# Altium footprint library SW_PTS525SM15SMTR2LFS.PcbLib: 1 footprints
Each footprint in its own frame and in the unit in brackets; x right, y up, seen from the top. Pads: shape width x height; smd on the part's side, far side on the other; paste and mask are expansions set on the pad; w line width, h text height; cw(c..) or ccw(c..) is an arc to the next point about the centre after c.
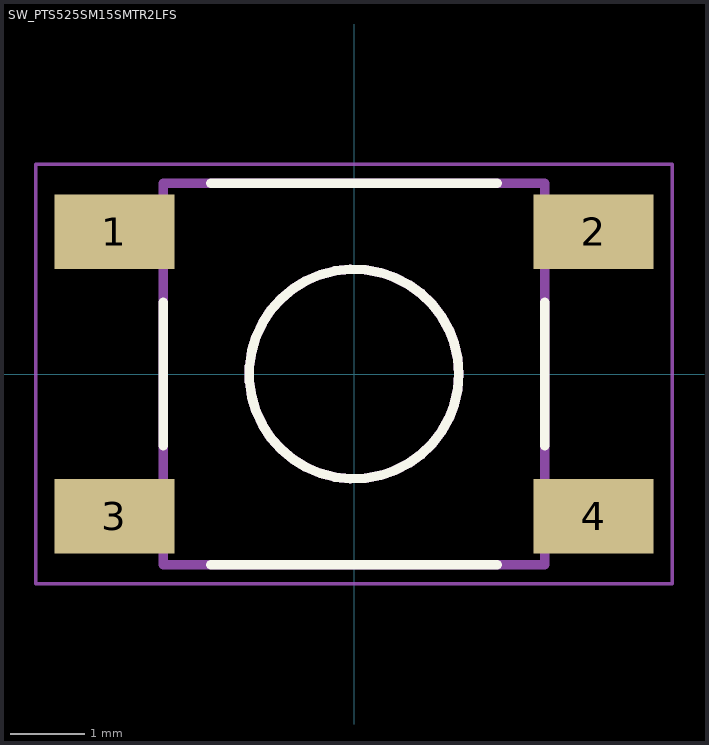
[diagram p0: the footprint, top view; thin cyan lines are the x and y axes]

## SW_PTS525SM15SMTR2LFS [mm]
pads (4):
  rect 1.6x1 smd: 1(-3.2,1.9) 2(3.2,1.9) 3(-3.2,-1.9) 4(3.2,-1.9)
Top Overlay:
  circle w0.127: c0,0 r1.4
  lines w0.127: -2.55,-0.956 -2.55,0.956 ; -1.913,-2.55 1.913,-2.55 ; -1.913,2.55 1.913,2.55 ; 2.55,-0.956 2.55,0.956
Mechanical 13:
  circle w0.127: c0,0 r1.4
  lines w0.127: -2.55,-2.55 -2.55,2.55 2.55,2.55 2.55,-2.55 -2.55,-2.55
Mechanical 15:
  lines w0.05: -4.25,-2.8 4.25,-2.8 4.25,2.8 -4.25,2.8 -4.25,-2.8
3D body "step_temp.STEP": height 1.6, standoff 0, extent -3.2,-2.55 3.2,2.55